# Altium schematic symbol library RES,2M2,5%,0.1W,0603.Schlib: 1 symbol
Pins are listed as number, name and electrical type; pins without a type are passive.

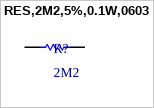
[diagram p0: symbol RES,2M2,5%,0.1W,0603]

## RES,2M2,5%,0.1W,0603
designator R?, comment 2M2
2.2 MOhms ±5% 0.1W, 1/10W Chip Resistor 0603 (1608 Metric) Automotive AEC-Q200 Thick Film
pins: 1, 2